# Altium integrated library SMD-FERRITE-BEAD-30R-3A_0805_.IntLib: 1 symbol
Pins are listed as number, name and electrical type; pins without a type are passive.

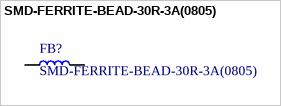
[diagram p0: symbol SMD-FERRITE-BEAD-30R-3A(0805)]

## SMD-FERRITE-BEAD-30R-3A(0805)
designator FB?
FERRITE BEAD 30 OHM 0805 1LN; MP: MH2029-300Y; MF: Bourns; Price: 0.03 USD; Availability: Good; Package: 0805 Bourns; Value: *
footprint L0805
pins: 1, 2